# EAGLE library part RVA (library minicircuits1)
Voltage variale attenuator Features: Broadband, 10-2500 MHz IP3, +43dBm typical 40 dB attenuation @ 1500 MHz good VSWR at IN/OUT ports over attenuation range minimal phase deviation over attenuation range no external bias and RF matching network required shieled case Maximum ratings: Operating temperature -55°C to +85°C Storage Temperature -55°C to +85°C Absolute Max. power supply voltage (PWR pin): 12V Absolute Max. control voltage (CTRL pin): 20V Absolute Max. RF input level: 100 mW Opetaring conditions: CRTL: 0-17V, 30 mA max minimum insertion loss at maximum voltage ctrl PRW: +3V to +5V, 5 mA max
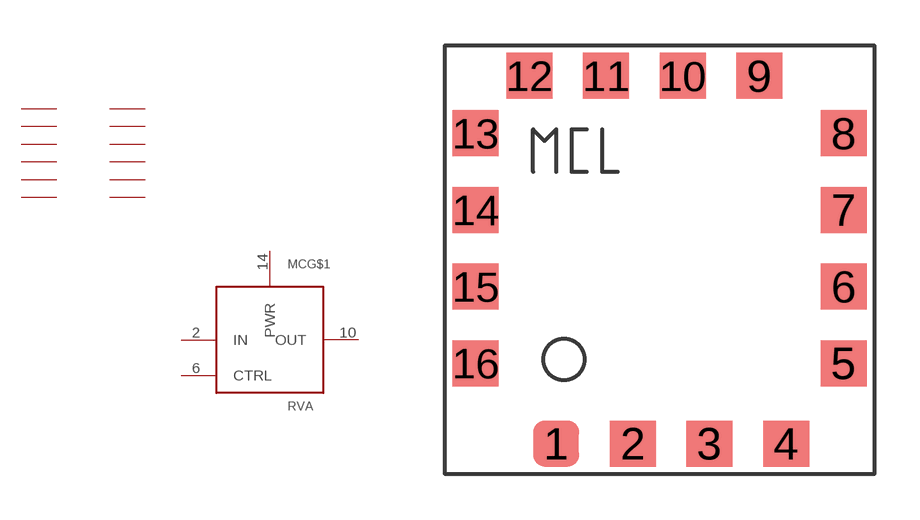
[diagram p9: symbol with the pads of DV874; footprint DV874]

Designator prefix MC; gates G$1=RVA G$2=GND G$3=GND G$4=GND G$5=GND G$6=GND G$7=GND G$8=GND G$9=GND G$10=GND G$11=GND G$12=GND G$13=GND

## RVA-2500  [DV874]
1  G$2:GND  pwr
2  G$1:IN  in
3  G$3:GND  pwr
4  G$4:GND  pwr
5  G$5:GND  pwr
6  G$1:CTRL  in
7  G$6:GND  pwr
8  G$7:GND  pwr
9  G$8:GND  pwr
10  G$1:OUT  out
11  G$9:GND  pwr
12  G$10:GND  pwr
13  G$11:GND  pwr
14  G$1:PWR  pwr
15  G$12:GND  pwr
16  G$13:GND  pwr

## Footprint DV874 (pad centres in mm)
smd 1.524 x 1.524: 1 0,-0.127; 2 2.54,-0.127; 3 5.08,-0.127; 4 7.62,-0.127; 5 9.525,2.54; 6 9.525,5.08; 7 9.525,7.62; 8 9.525,10.16; 9 6.731,12.065; 10 4.191,12.065; 11 1.651,12.065; 12 -0.889,12.065; 13 -2.667,10.16; 14 -2.667,7.62; 15 -2.667,5.08; 16 -2.667,2.54